# Altium footprint library 06035J0R3PBSTR.PcbLib: 3 footprints
Each footprint in its own frame and in the unit in brackets; x right, y up, seen from the top. Pads: shape width x height; smd on the part's side, far side on the other; paste and mask are expansions set on the pad; w line width, h text height; cw(c..) or ccw(c..) is an arc to the next point about the centre after c.
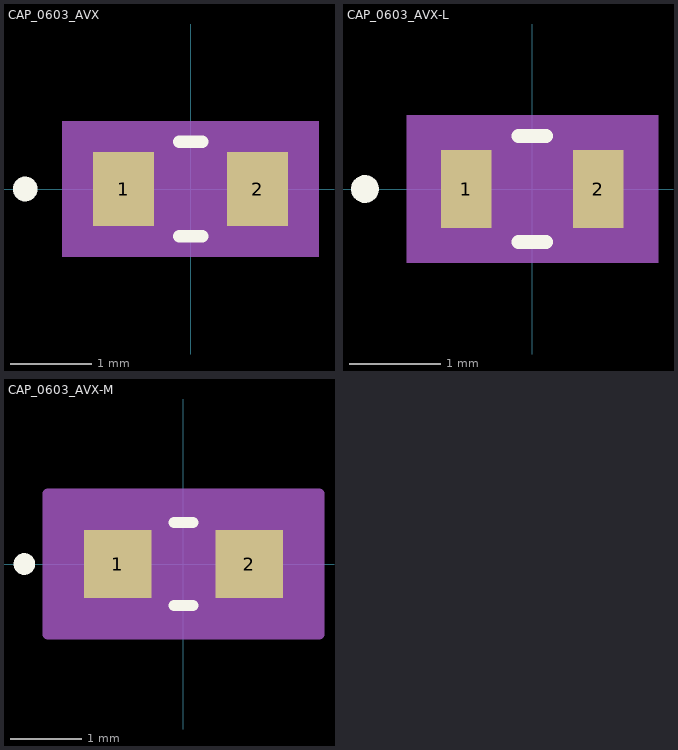
[diagram p0: the footprints below, top view; thin cyan lines are the x and y axes]

## CAP_0603_AVX [mm]
pads (2):
  rect 0.75x0.91 smd paste+0 mask+0: 1(-0.825,0) 2(0.825,0)
Top Overlay:
  circle w0.152: c-2.038,0 r0.076
  lines w0.152: -0.142,-0.582 0.142,-0.582 ; -0.142,0.582 0.142,0.582
Mechanical 5:
  region: 1.581,-0.836 -1.581,-0.836 -1.581,0.836 1.581,0.836
Mechanical 13:
  circle w0: c-0.698,0 r0.076
  lines w0.025: -0.85,-0.455 -0.85,0.455 ; -0.85,-0.455 -0.45,-0.455 -0.45,0.455 -0.85,0.455 ; -0.85,-0.455 0.85,-0.455 ; -0.85,-0.455 -0.85,0.455 ; -0.85,0.455 0.85,0.455 ; 0.85,-0.455 0.45,-0.455 0.45,0.455 0.85,0.455 ; 0.85,-0.455 0.85,0.455 ; 0.85,-0.455 0.85,0.455
Mechanical 15:
  region: 1.454,-0.709 -1.454,-0.709 -1.454,0.709 1.454,0.709
  lines w0.152: -1.454,-0.709 -1.454,0.709 1.454,0.709 1.454,-0.709 -1.454,-0.709
3D body "CAP_0603_AVX.step": height 0.73, standoff 0, extent -0.85,-0.455 0.85,0.455

## CAP_0603_AVX-L [mm]
pads (2):
  rect 0.55x0.86 smd paste+0 mask+0: 1(-0.725,0) 2(0.725,0)
Top Overlay:
  circle w0.152: c-1.838,0 r0.076
  lines w0.152: -0.154,-0.582 0.154,-0.582 ; -0.154,0.582 0.154,0.582
Mechanical 5:
  region: 1.381,-0.811 -1.381,-0.811 -1.381,0.811 1.381,0.811
Mechanical 13:
  circle w0: c-0.598,0 r0.076
  lines w0.025: -0.85,-0.455 -0.85,0.455 ; -0.85,-0.455 -0.45,-0.455 -0.45,0.455 -0.85,0.455 ; -0.85,-0.455 0.85,-0.455 ; -0.85,-0.455 -0.85,0.455 ; -0.85,0.455 0.85,0.455 ; 0.85,-0.455 0.45,-0.455 0.45,0.455 0.85,0.455 ; 0.85,-0.455 0.85,0.455 ; 0.85,-0.455 0.85,0.455
Mechanical 15:
  region: 1.102,-0.532 -1.102,-0.532 -1.102,0.532 1.102,0.532
  lines w0.152: -1.102,-0.532 -1.102,0.532 1.102,0.532 1.102,-0.532 -1.102,-0.532
3D body "CAP_0603_AVX.step": height 0.73, standoff 0, extent -0.85,-0.455 0.85,0.455

## CAP_0603_AVX-M [mm]
pads (2):
  rect 0.95x0.96 smd paste+0 mask+0: 1(-0.925,0) 2(0.925,0)
Top Overlay:
  circle w0.152: c-2.238,0 r0.076
  lines w0.152: -0.133,-0.582 0.133,-0.582 ; -0.133,0.582 0.133,0.582
Mechanical 5:
  region: 1.781,-0.861 -1.781,-0.861 -1.781,0.861 1.781,0.861
Mechanical 13:
  circle w0: c-0.798,0 r0.076
  lines w0.025: -0.85,-0.455 -0.85,0.455 ; -0.85,-0.455 -0.45,-0.455 -0.45,0.455 -0.85,0.455 ; -0.85,-0.455 0.85,-0.455 ; -0.85,-0.455 -0.85,0.455 ; -0.85,0.455 0.85,0.455 ; 0.85,-0.455 0.45,-0.455 0.45,0.455 0.85,0.455 ; 0.85,-0.455 0.85,0.455 ; 0.85,-0.455 0.85,0.455
Mechanical 15:
  region: 1.908,-0.988 -1.908,-0.988 -1.908,0.988 1.908,0.988
  lines w0.152: -1.908,-0.988 -1.908,0.988 1.908,0.988 1.908,-0.988 -1.908,-0.988
3D body "CAP_0603_AVX.step": height 0.73, standoff 0, extent -0.85,-0.455 0.85,0.455